# Altium footprint library LOGO.PcbLib: 5 footprints
Each footprint in its own frame and in the unit in brackets; x right, y up, seen from the top. Pads: shape width x height; smd on the part's side, far side on the other; paste and mask are expansions set on the pad; w line width, h text height; cw(c..) or ccw(c..) is an arc to the next point about the centre after c.
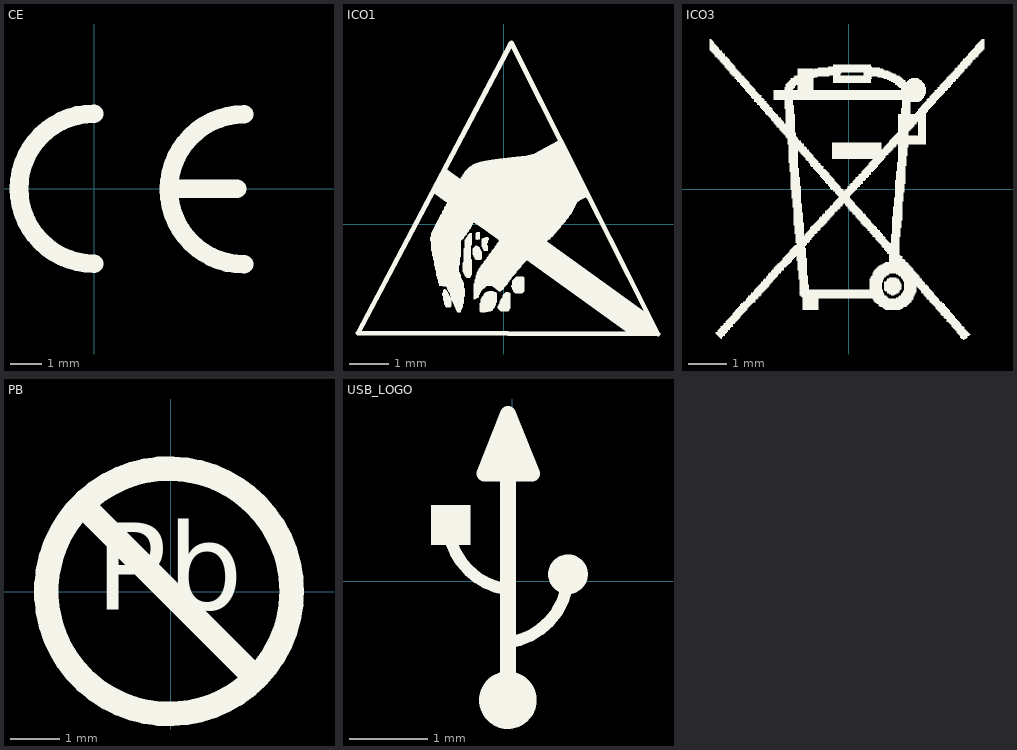
[diagram p0: the footprints below, top view; thin cyan lines are the x and y axes]

## CE [mm]
Top Overlay:
  lines w0.6: 0,-2.413 cw(c0,0) 0,2.413 ; 2.53,0 4.6,0 ; 4.826,-2.438 cw(c4.826,-0.025) 4.826,2.388

## ICO1 [mm]
Top Overlay:
  drawing of 14 lines, arcs and shapes, not listed

## ICO3 [mm]
Top Overlay:
  drawing of 1020 lines, arcs and shapes, not listed

## PB [mm]
Top Overlay:
  circle w0.5: c-0.031,0.013 r2.5
  lines w0.5: -1.737,1.719 1.675,-1.693
  text "Pb" at -1.536,-0.948 h3.05

## USB_LOGO [mm]
height 10.16
Top Overlay:
  circle w0.254: c0.716,0.09 r0.127
  circle w0.381: c-0.053,-1.518 r0.178
  rectangle: -1.039,0.463 -0.529,0.973
  lines w0.152: -0.779,0.504 ccw(c0.068,0.774) -0.051,-0.107 ; -0.051,-0.784 ccw(c-0.171,0.097) 0.717,0.046
  lines w0.203: -0.051,-1.384 -0.051,2.139 ; -0.051,1.375 -0.051,2.139 ; -0.051,2.139 0.259,1.377 -0.351,1.377 -0.051,2.139
  lines w0.381: -0.051,1.479 -0.051,1.58